# EAGLE library part DMG9926USD-13 (library SamacSys_Parts)
Diodes Inc DMG9926USD-13 Dual N-channel MOSFET Transistor, 8 A, 20 V, 8-Pin SOP Source: Datasheet
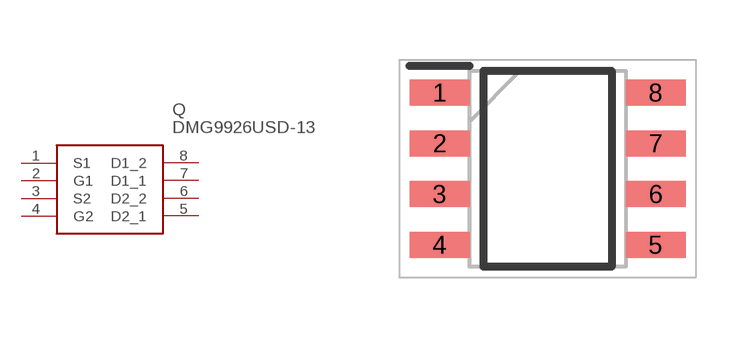
[diagram p0: symbol with the pads of SOIC127P600X175-8N; footprint SOIC127P600X175-8N]

Designator prefix Q

## DMG9926USD-13 (Description: Diodes Inc DMG9926USD-13 Dual N-channel MOSFET Transistor, 8 A, 20 V, 8-Pin SOP; Height: 1.75mm; Manufacturer_Name: Diodes Inc.; Manufacturer_Part_Number: DMG9926USD-13; Mouser_Part_Number: 621-DMG9926USD-13; Mouser_Price-Stock: https://www.mouser.co.uk/ProductDetail/Diodes-Incorporated/DMG9926USD-13?qs=4YT44p7w2buzSaF0raP1iw%3D%3D)  [SOIC127P600X175-8N]
1  S1
2  G1
3  S2
4  G2
5  D2_1
6  D2_2
7  D1_1
8  D1_2

## Footprint SOIC127P600X175-8N (pad centres in mm)
SOP-8L
smd 1.5 x 0.65: 1 -2.7,1.905; 2 -2.7,0.635; 3 -2.7,-0.635; 4 -2.7,-1.905; 5 2.7,-1.905; 6 2.7,-0.635; 7 2.7,0.635; 8 2.7,1.905